# Altium integrated library TI Power Management Power Supply Support.IntLib: 88 symbols (part 1 of 4)
Pins are listed as number, name and electrical type; pins without a type are passive.

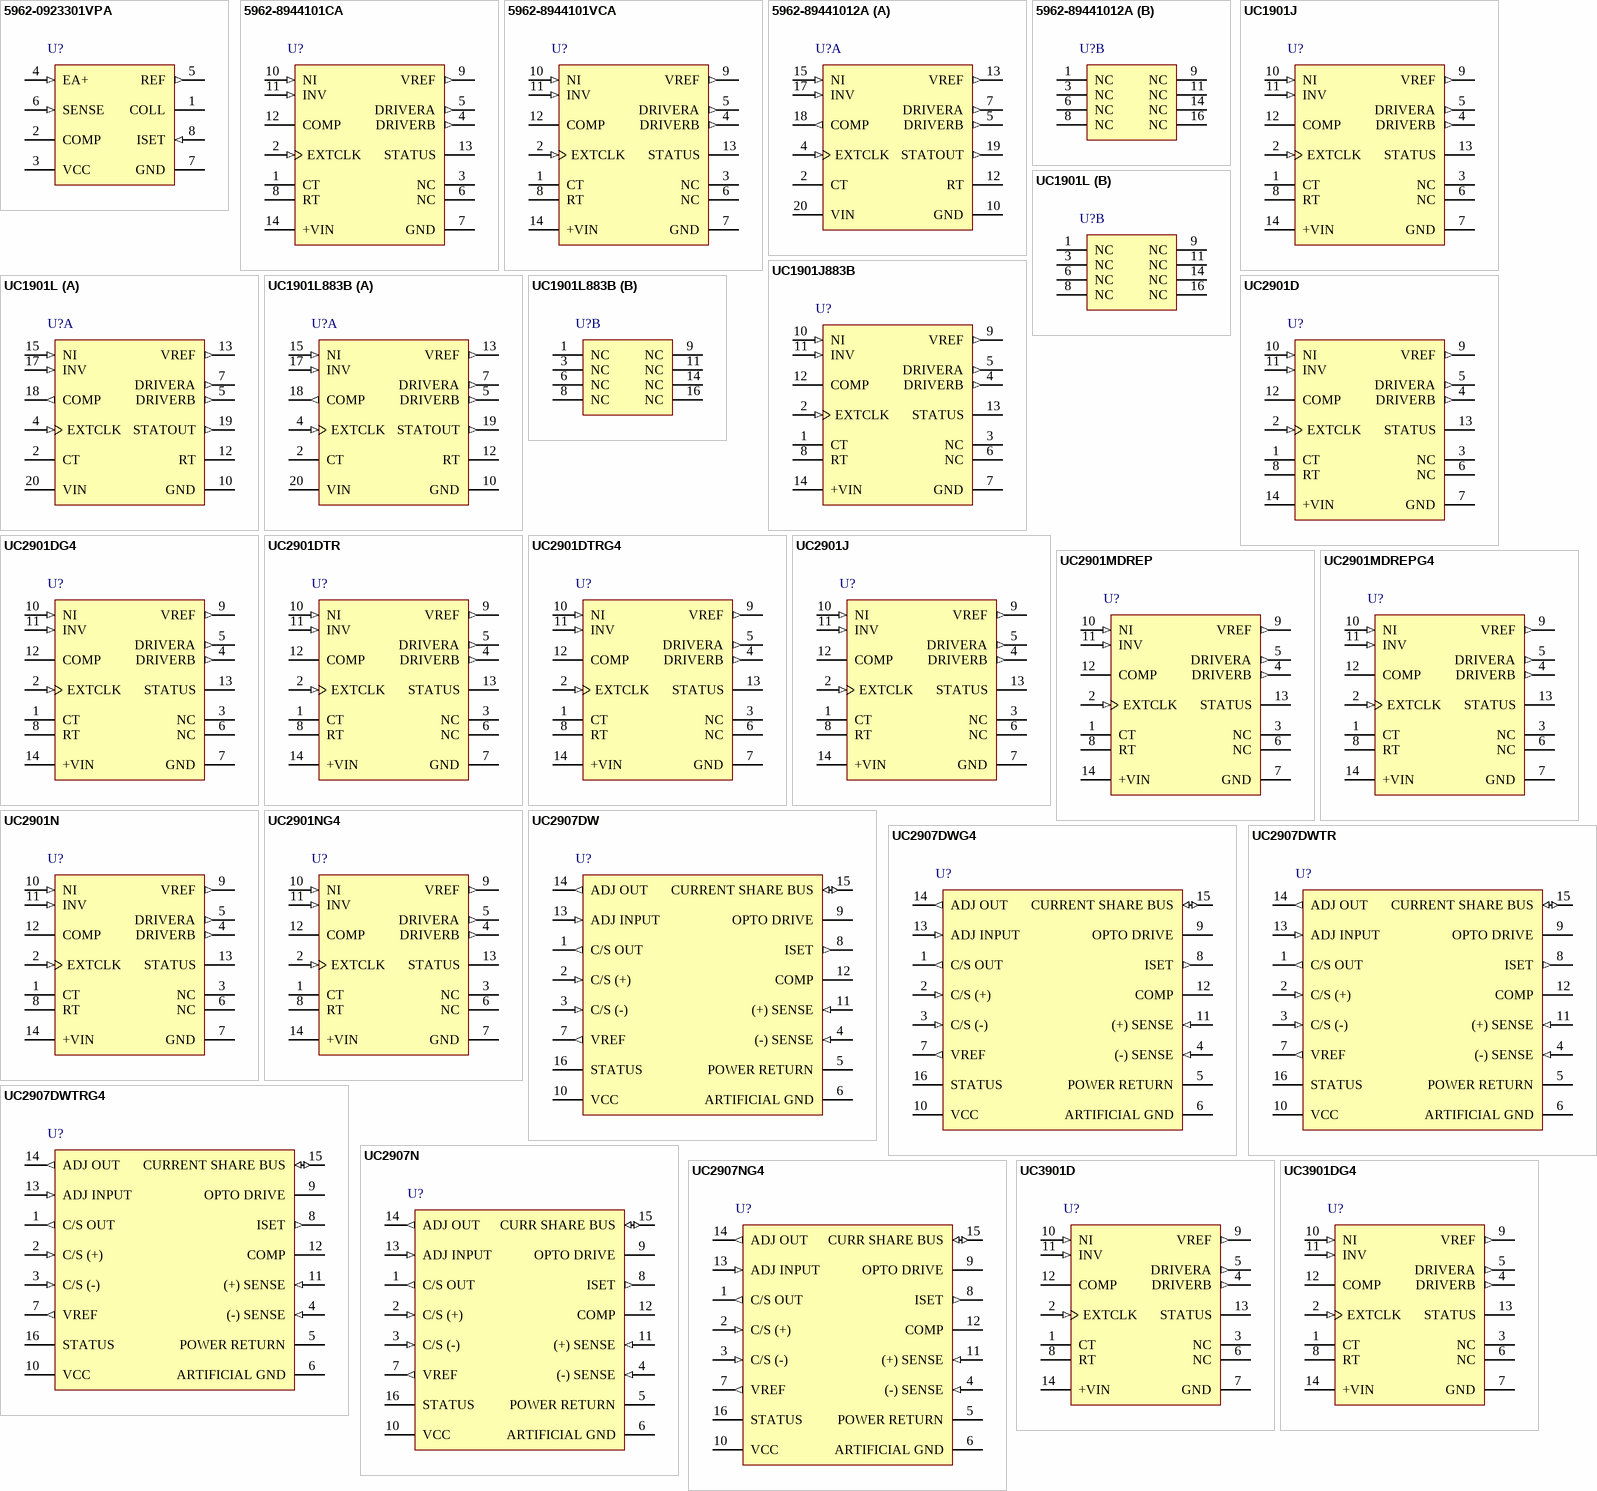
[diagram p0: symbols 5962-0923301VPA to UC3901DG4]

## 5962-0923301VPA
designator U?
Precision Analog Controller, 2.4 to 24 V, -55 to 125 degC, 8-pin CDIP (JG); Manufacturer: Texas Instruments; PartNumber: 5962-0923301VPA; On Board Reference: 1.3; Operating Supply Current(mA): 0.5; Operating Supply(Max)(V): 24; Operating Supply(Min)(V): 2.4; Output Current(A): 0.1; Rating: Space; Vref tol(%): 0.8; DatasheetVersion: SLUS951A; PackageVersion: revC, Aug-1996; PackageReference: JG8; PackageDescription: 8-Pin Ceramic Dual-In-Line Package, Row Spacing 7.62 mm, Pitch 2.54 mm; Supplier 1: Mouser; Supplier Part Number 1: 595-5962-0923301VPA; Reference Voltage(V): 1.3; Mounting Technology: Through Hole; ComponentLink1Description: Datasheet; ComponentLink1URL: http://www.ti.com/general/docs/lit/getliterature.tsp?genericPartNumber=UC19432-SP&fileType=pdf
footprint JG8 (DIP, 8-Leads, Row Spacing 7.62mm, Pitch 2.54mm, Body 9.6x6.7mm)
pins: 1 COLL (oc) "The collector of the output transistor with a maximum voltage of 24 V. This pin is the output of the transconducance amplifier. The overall open loop voltage gain of the transconductance amplifier is gm x RL, where gm is (See Datasheet)", 2 COMP "The output of the error amplifier and the input to the transconductance amplifier. This pin is available to compensate the high frequency gain of the error amplifier. It is internally voltage limited to approximately 2 V.", 3 VCC (power) "The power connection for the device. The minimum to maximum operating voltage is 2.4 V to 24 V. The quiescent current is typically 0.5 mA.", 4 EA+ (in) "The non-inverting input to the error amplifier.", 5 REF (out) "The output of the trimmed precision reference. It can source or sink 10 uA and still maintain less than +/-1% output variation.", 6 SENSE (in) "The inverting terminal of the error amplifier used as both the voltage sense input to the error amplifier and its other compensation point. The error amplifier uses the SENSE input to compare against the 1.3-V on-chip (See Datasheet)", 7 GND (power) "The reference and power ground for the device. The power ground of the output ransistor is isolated on the chip from the substrate ground used to bias the remainder of the device.", 8 ISET (in) "The current set pin for the transconductance amplifier. The transconductance will be -140 mS as specified in the electrical table if this pin is grounded. If a resistance, RL, is added to the ISET pin, the resulting new (See Datasheet)"

## 5962-8944101CA
designator U?
Isolated Feedback Generator, 4.5 to 40 V, -55 to 125 degC, 14-pin CDIP (J); Manufacturer: Texas Instruments; PartNumber: 5962-8944101CA; On Board Oscillator: Useable to 5 MHz; On Board Reference: Yes; Operating Supply Current(mA): 5; Operating Supply(Max)(V): 40; Operating Supply(Min)(V): 4.5; Output Current(A): 0.035; Rating: Military; Reference Voltage(V): 1.5; UVLO: TRUE; Vref tol(%): 2; DatasheetVersion: SLUS279A; PackageVersion: revF, Mar-2003; PackageReference: J14; PackageDescription: 14-Pin Ceramic Dual-In-Line Package, Row Spacing 7.62 mm, Pitch 2.54 mm; Mounting Technology: Through Hole; ComponentLink1Description: Datasheet; ComponentLink1URL: http://www.ti.com/general/docs/lit/getliterature.tsp?genericPartNumber=UC1901&fileType=pdf
footprint J14 (DIP, 14-Leads, Row Spacing 7.62mm, Pitch 2.54mm, Body 19.9x6.9mm)
pins: 1 CT, 2 EXTCLK (in), 3 NC, 4 DRIVERB (out), 5 DRIVERA (out), 6 NC, 7 GND (power), 8 RT, 9 VREF (out), 10 NI (in), 11 INV (in), 12 COMP, 13 STATUS (oc), 14 +VIN (power)

## 5962-8944101VCA
designator U?
Isolated Feedback Generator, -55 to 125 degC, 14-pin CDIP (J); Manufacturer: Texas Instruments; PartNumber: 5962-8944101VCA; Rating: Space; DatasheetVersion: SLUS279A; PackageVersion: revF, Mar-2003; PackageReference: J14; PackageDescription: 14-Pin Ceramic Dual-In-Line Package, Row Spacing 7.62 mm, Pitch 2.54 mm; Mounting Technology: Through Hole; ComponentLink1Description: Datasheet; ComponentLink1URL: http://www.ti.com/general/docs/lit/getliterature.tsp?genericPartNumber=UC1901-SP&fileType=pdf
footprint J14 (DIP, 14-Leads, Row Spacing 7.62mm, Pitch 2.54mm, Body 19.9x6.9mm)
pins: 1 CT, 2 EXTCLK (in), 3 NC, 4 DRIVERB (out), 5 DRIVERA (out), 6 NC, 7 GND (power), 8 RT, 9 VREF (out), 10 NI (in), 11 INV (in), 12 COMP, 13 STATUS (oc), 14 +VIN (power)

## 5962-89441012A
designator U?
Isolated Feedback Generator, 4.5 to 40 V, -55 to 125 degC, 20-pin LCCC (FK); Manufacturer: Texas Instruments; PartNumber: 5962-89441012A; On Board Oscillator: Useable to 5 MHz; On Board Reference: Yes; Operating Supply Current(mA): 5; Operating Supply(Max)(V): 40; Operating Supply(Min)(V): 4.5; Output Current(A): 0.035; Rating: Military; Reference Voltage(V): 1.5; UVLO: TRUE; Vref tol(%): 2; DatasheetVersion: SLUS279A; PackageVersion: revD, Jan-2011; PackageReference: FK20; PackageDescription: 20-Pin Leadless Ceramic Chip Carrier, 1.27 mm Pitch; Mounting Technology: Surface Mount; Code_JEDEC: MS-004; ComponentLink1Description: Datasheet; ComponentLink1URL: http://www.ti.com/general/docs/lit/getliterature.tsp?genericPartNumber=UC1901&fileType=pdf
footprint FK20_N (Leadless Chip Carrier, 20-Leads, Body 8.9x8.9mm, Pitch 1.27mm, IPC Medium Density)
footprint FK20_L (Leadless Chip Carrier, 20-Leads, Body 8.9x8.9mm, Pitch 1.27mm, IPC High Density)
footprint FK20_M (Leadless Chip Carrier, 20-Leads, Body 8.9x8.9mm, Pitch 1.27mm, IPC Low Density)
part A pins: 2 CT, 4 EXTCLK (in), 5 DRIVERB (out), 7 DRIVERA (out), 10 GND (power), 12 RT, 13 VREF (out), 15 NI (in), 17 INV (in), 18 COMP (out), 19 STATOUT (out), 20 VIN (power)
part B pins: 1 NC, 3 NC, 6 NC, 8 NC, 9 NC, 11 NC, 14 NC, 16 NC

## UC1901J
designator U?
Isolated Feedback Generator, 4.5 to 40 V, -55 to 125 degC, 14-pin CDIP (J); Manufacturer: Texas Instruments; PartNumber: UC1901J; On Board Oscillator: Useable to 5 MHz; On Board Reference: Yes; Operating Supply Current(mA): 5; Operating Supply(Max)(V): 40; Operating Supply(Min)(V): 4.5; Output Current(A): 0.035; Rating: Military; Reference Voltage(V): 1.5; UVLO: TRUE; Vref tol(%): 2; DatasheetVersion: SLUS279A; PackageVersion: revF, Mar-2003; PackageReference: J14; PackageDescription: 14-Pin Ceramic Dual-In-Line Package, Row Spacing 7.62 mm, Pitch 2.54 mm; Mounting Technology: Through Hole; ComponentLink1Description: Datasheet; ComponentLink1URL: http://www.ti.com/general/docs/lit/getliterature.tsp?genericPartNumber=UC1901&fileType=pdf
footprint J14 (DIP, 14-Leads, Row Spacing 7.62mm, Pitch 2.54mm, Body 19.9x6.9mm)
pins: 1 CT, 2 EXTCLK (in), 3 NC, 4 DRIVERB (out), 5 DRIVERA (out), 6 NC, 7 GND (power), 8 RT, 9 VREF (out), 10 NI (in), 11 INV (in), 12 COMP, 13 STATUS (oc), 14 +VIN (power)

## UC1901J883B
designator U?
Isolated Feedback Generator, 4.5 to 40 V, -55 to 125 degC, 14-pin CDIP (J); Manufacturer: Texas Instruments; PartNumber: UC1901J883B; On Board Oscillator: Useable to 5 MHz; On Board Reference: Yes; Operating Supply Current(mA): 5; Operating Supply(Max)(V): 40; Operating Supply(Min)(V): 4.5; Output Current(A): 0.035; Rating: Military; Reference Voltage(V): 1.5; UVLO: TRUE; Vref tol(%): 2; DatasheetVersion: SLUS279A; PackageVersion: revF, Mar-2003; PackageReference: J14; PackageDescription: 14-Pin Ceramic Dual-In-Line Package, Row Spacing 7.62 mm, Pitch 2.54 mm; Mounting Technology: Through Hole; ComponentLink1Description: Datasheet; ComponentLink1URL: http://www.ti.com/general/docs/lit/getliterature.tsp?genericPartNumber=UC1901&fileType=pdf
footprint J14 (DIP, 14-Leads, Row Spacing 7.62mm, Pitch 2.54mm, Body 19.9x6.9mm)
pins: 1 CT, 2 EXTCLK (in), 3 NC, 4 DRIVERB (out), 5 DRIVERA (out), 6 NC, 7 GND (power), 8 RT, 9 VREF (out), 10 NI (in), 11 INV (in), 12 COMP, 13 STATUS (oc), 14 +VIN (power)

## UC1901L
designator U?
Isolated Feedback Generator, 4.5 to 40 V, -55 to 125 degC, 20-pin LCCC (FK); Manufacturer: Texas Instruments; PartNumber: UC1901L; On Board Oscillator: Useable to 5 MHz; On Board Reference: Yes; Operating Supply Current(mA): 5; Operating Supply(Max)(V): 40; Operating Supply(Min)(V): 4.5; Output Current(A): 0.035; Rating: Military; Reference Voltage(V): 1.5; UVLO: TRUE; Vref tol(%): 2; DatasheetVersion: SLUS279A; PackageVersion: revD, Jan-2011; PackageReference: FK20; PackageDescription: 20-Pin Leadless Ceramic Chip Carrier, 1.27 mm Pitch; Mounting Technology: Surface Mount; Code_JEDEC: MS-004; ComponentLink1Description: Datasheet; ComponentLink1URL: http://www.ti.com/general/docs/lit/getliterature.tsp?genericPartNumber=UC1901&fileType=pdf
footprint FK20_N (Leadless Chip Carrier, 20-Leads, Body 8.9x8.9mm, Pitch 1.27mm, IPC Medium Density)
footprint FK20_L (Leadless Chip Carrier, 20-Leads, Body 8.9x8.9mm, Pitch 1.27mm, IPC High Density)
footprint FK20_M (Leadless Chip Carrier, 20-Leads, Body 8.9x8.9mm, Pitch 1.27mm, IPC Low Density)
part A pins: 2 CT, 4 EXTCLK (in), 5 DRIVERB (out), 7 DRIVERA (out), 10 GND (power), 12 RT, 13 VREF (out), 15 NI (in), 17 INV (in), 18 COMP (out), 19 STATOUT (out), 20 VIN (power)
part B pins: 1 NC, 3 NC, 6 NC, 8 NC, 9 NC, 11 NC, 14 NC, 16 NC

## UC1901L883B
designator U?
Isolated Feedback Generator, 4.5 to 40 V, -55 to 125 degC, 20-pin LCCC (FK); Manufacturer: Texas Instruments; PartNumber: UC1901L883B; On Board Oscillator: Useable to 5 MHz; On Board Reference: Yes; Operating Supply Current(mA): 5; Operating Supply(Max)(V): 40; Operating Supply(Min)(V): 4.5; Output Current(A): 0.035; Rating: Military; Reference Voltage(V): 1.5; UVLO: TRUE; Vref tol(%): 2; DatasheetVersion: SLUS279A; PackageVersion: revD, Jan-2011; PackageReference: FK20; PackageDescription: 20-Pin Leadless Ceramic Chip Carrier, 1.27 mm Pitch; Mounting Technology: Surface Mount; Code_JEDEC: MS-004; ComponentLink1Description: Datasheet; ComponentLink1URL: http://www.ti.com/general/docs/lit/getliterature.tsp?genericPartNumber=UC1901&fileType=pdf
footprint FK20_N (Leadless Chip Carrier, 20-Leads, Body 8.9x8.9mm, Pitch 1.27mm, IPC Medium Density)
footprint FK20_L (Leadless Chip Carrier, 20-Leads, Body 8.9x8.9mm, Pitch 1.27mm, IPC High Density)
footprint FK20_M (Leadless Chip Carrier, 20-Leads, Body 8.9x8.9mm, Pitch 1.27mm, IPC Low Density)
part A pins: 2 CT, 4 EXTCLK (in), 5 DRIVERB (out), 7 DRIVERA (out), 10 GND (power), 12 RT, 13 VREF (out), 15 NI (in), 17 INV (in), 18 COMP (out), 19 STATOUT (out), 20 VIN (power)
part B pins: 1 NC, 3 NC, 6 NC, 8 NC, 9 NC, 11 NC, 14 NC, 16 NC

## UC2901D
designator U?
Isolated Feedback Generator, 4.5 to 40 V, -40 to 85 degC, 14-pin SOIC (D), Green (RoHS & no Sb/Br); Manufacturer: Texas Instruments; PartNumber: UC2901D; On Board Oscillator: Useable to 5 MHz; On Board Reference: Yes; Operating Supply Current(mA): 5; Operating Supply(Max)(V): 40; Operating Supply(Min)(V): 4.5; Output Current(A): 0.035; Rating: Military; Reference Voltage(V): 1.5; UVLO: TRUE; Vref tol(%): 2; DatasheetVersion: SLUS279A; PackageVersion: revM, Jun-2011; PackageReference: D14; PackageDescription: 14-Pin Plastic Small Outline Integrated Circuit, 8.7 x 3.9 mm, Pitch 1.27 mm Pitch; Supplier 1: Digi-Key; Supplier Part Number 1: 296-11204-5-ND; Supplier 2: Newark; Supplier Part Number 2: 77C3076; Supplier 3: Mouser; Supplier Part Number 3: 595-UC2901D; Mounting Technology: Surface Mount; Code_JEDEC: MS-012AB; ComponentLink1Description: Datasheet; ComponentLink1URL: http://www.ti.com/general/docs/lit/getliterature.tsp?genericPartNumber=UC2901&fileType=pdf
footprint D14_N (SOIC, 14-Leads, Body 8.7x3.9mm, Pitch 1.27mm, IPC Medium Density)
footprint D14_L (SOIC, 14-Leads, Body 8.7x3.9mm, Pitch 1.27mm, IPC High Density)
footprint D14_M (SOIC, 14-Leads, Body 8.7x3.9mm, Pitch 1.27mm, IPC Low Density)
pins: 1 CT, 2 EXTCLK (in), 3 NC, 4 DRIVERB (out), 5 DRIVERA (out), 6 NC, 7 GND (power), 8 RT, 9 VREF (out), 10 NI (in), 11 INV (in), 12 COMP, 13 STATUS (oc), 14 +VIN (power)

## UC2901DG4
designator U?
Isolated Feedback Generator, 4.5 to 40 V, -40 to 85 degC, 14-pin SOIC (D), Green (RoHS & no Sb/Br); Manufacturer: Texas Instruments; PartNumber: UC2901DG4; On Board Oscillator: Useable to 5 MHz; On Board Reference: Yes; Operating Supply Current(mA): 5; Operating Supply(Max)(V): 40; Operating Supply(Min)(V): 4.5; Output Current(A): 0.035; Rating: Military; Reference Voltage(V): 1.5; UVLO: TRUE; Vref tol(%): 2; DatasheetVersion: SLUS279A; PackageVersion: revM, Jun-2011; PackageReference: D14; PackageDescription: 14-Pin Plastic Small Outline Integrated Circuit, 8.7 x 3.9 mm, Pitch 1.27 mm Pitch; Supplier 1: Digi-Key; Supplier Part Number 1: UC2901DG4-ND; Supplier 2: Newark; Supplier Part Number 2: 54K2296; Supplier 3: Mouser; Supplier Part Number 3: 595-UC2901DG4; Mounting Technology: Surface Mount; Code_JEDEC: MS-012AB; ComponentLink1Description: Datasheet; ComponentLink1URL: http://www.ti.com/general/docs/lit/getliterature.tsp?genericPartNumber=UC2901&fileType=pdf
footprint D14_N (SOIC, 14-Leads, Body 8.7x3.9mm, Pitch 1.27mm, IPC Medium Density)
footprint D14_L (SOIC, 14-Leads, Body 8.7x3.9mm, Pitch 1.27mm, IPC High Density)
footprint D14_M (SOIC, 14-Leads, Body 8.7x3.9mm, Pitch 1.27mm, IPC Low Density)
pins: 1 CT, 2 EXTCLK (in), 3 NC, 4 DRIVERB (out), 5 DRIVERA (out), 6 NC, 7 GND (power), 8 RT, 9 VREF (out), 10 NI (in), 11 INV (in), 12 COMP, 13 STATUS (oc), 14 +VIN (power)

## UC2901DTR
designator U?
Isolated Feedback Generator, 4.5 to 40 V, -40 to 85 degC, 14-pin SOIC (D), Green (RoHS & no Sb/Br); Manufacturer: Texas Instruments; PartNumber: UC2901DTR; On Board Oscillator: Useable to 5 MHz; On Board Reference: Yes; Operating Supply Current(mA): 5; Operating Supply(Max)(V): 40; Operating Supply(Min)(V): 4.5; Output Current(A): 0.035; Rating: Military; Reference Voltage(V): 1.5; UVLO: TRUE; Vref tol(%): 2; DatasheetVersion: SLUS279A; PackageVersion: revM, Jun-2011; PackageReference: D14; PackageDescription: 14-Pin Plastic Small Outline Integrated Circuit, 8.7 x 3.9 mm, Pitch 1.27 mm Pitch; Supplier 1: Digi-Key; Supplier Part Number 1: UC2901DTR-ND; Supplier 2: Newark; Supplier Part Number 2: 77C3077; Supplier 3: Mouser; Supplier Part Number 3: 595-UC2901DTR; Mounting Technology: Surface Mount; Code_JEDEC: MS-012AB; ComponentLink1Description: Datasheet; ComponentLink1URL: http://www.ti.com/general/docs/lit/getliterature.tsp?genericPartNumber=UC2901&fileType=pdf
footprint D14_N (SOIC, 14-Leads, Body 8.7x3.9mm, Pitch 1.27mm, IPC Medium Density)
footprint D14_L (SOIC, 14-Leads, Body 8.7x3.9mm, Pitch 1.27mm, IPC High Density)
footprint D14_M (SOIC, 14-Leads, Body 8.7x3.9mm, Pitch 1.27mm, IPC Low Density)
pins: 1 CT, 2 EXTCLK (in), 3 NC, 4 DRIVERB (out), 5 DRIVERA (out), 6 NC, 7 GND (power), 8 RT, 9 VREF (out), 10 NI (in), 11 INV (in), 12 COMP, 13 STATUS (oc), 14 +VIN (power)

## UC2901DTRG4
designator U?
Isolated Feedback Generator, 4.5 to 40 V, -40 to 85 degC, 14-pin SOIC (D), Green (RoHS & no Sb/Br); Manufacturer: Texas Instruments; PartNumber: UC2901DTRG4; On Board Oscillator: Useable to 5 MHz; On Board Reference: Yes; Operating Supply Current(mA): 5; Operating Supply(Max)(V): 40; Operating Supply(Min)(V): 4.5; Output Current(A): 0.035; Rating: Military; Reference Voltage(V): 1.5; UVLO: TRUE; Vref tol(%): 2; DatasheetVersion: SLUS279A; PackageVersion: revM, Jun-2011; PackageReference: D14; PackageDescription: 14-Pin Plastic Small Outline Integrated Circuit, 8.7 x 3.9 mm, Pitch 1.27 mm Pitch; Supplier 1: Digi-Key; Supplier Part Number 1: UC2901DTRG4-ND; Supplier 2: Newark; Supplier Part Number 2: 58K7112; Supplier 3: Mouser; Supplier Part Number 3: 595-UC2901DTRG4; Mounting Technology: Surface Mount; Code_JEDEC: MS-012AB; ComponentLink1Description: Datasheet; ComponentLink1URL: http://www.ti.com/general/docs/lit/getliterature.tsp?genericPartNumber=UC2901&fileType=pdf
footprint D14_N (SOIC, 14-Leads, Body 8.7x3.9mm, Pitch 1.27mm, IPC Medium Density)
footprint D14_L (SOIC, 14-Leads, Body 8.7x3.9mm, Pitch 1.27mm, IPC High Density)
footprint D14_M (SOIC, 14-Leads, Body 8.7x3.9mm, Pitch 1.27mm, IPC Low Density)
pins: 1 CT, 2 EXTCLK (in), 3 NC, 4 DRIVERB (out), 5 DRIVERA (out), 6 NC, 7 GND (power), 8 RT, 9 VREF (out), 10 NI (in), 11 INV (in), 12 COMP, 13 STATUS (oc), 14 +VIN (power)

## UC2901J
designator U?
Isolated Feedback Generator, 4.5 to 40 V, -40 to 85 degC, 14-pin CDIP (J); Manufacturer: Texas Instruments; PartNumber: UC2901J; On Board Oscillator: Useable to 5 MHz; On Board Reference: Yes; Operating Supply Current(mA): 5; Operating Supply(Max)(V): 40; Operating Supply(Min)(V): 4.5; Output Current(A): 0.035; Rating: Military; Reference Voltage(V): 1.5; UVLO: TRUE; Vref tol(%): 2; DatasheetVersion: SLUS279A; PackageVersion: revF, Mar-2003; PackageReference: J14; PackageDescription: 14-Pin Ceramic Dual-In-Line Package, Row Spacing 7.62 mm, Pitch 2.54 mm; Mounting Technology: Through Hole; ComponentLink1Description: Datasheet; ComponentLink1URL: http://www.ti.com/general/docs/lit/getliterature.tsp?genericPartNumber=UC2901&fileType=pdf
footprint J14 (DIP, 14-Leads, Row Spacing 7.62mm, Pitch 2.54mm, Body 19.9x6.9mm)
pins: 1 CT, 2 EXTCLK (in), 3 NC, 4 DRIVERB (out), 5 DRIVERA (out), 6 NC, 7 GND (power), 8 RT, 9 VREF (out), 10 NI (in), 11 INV (in), 12 COMP, 13 STATUS (oc), 14 +VIN (power)

## UC2901MDREP
designator U?
Enhanced Product Isolated Feedback Generator, 4.5 to 40 V, -55 to 125 degC, 14-pin SOIC (D), Green (RoHS & no Sb/Br); Manufacturer: Texas Instruments; PartNumber: UC2901MDREP; On Board Oscillator: Useable to 5 MHz; On Board Reference: Yes; Operating Supply Current(mA): 5; Operating Supply(Max)(V): 40; Operating Supply(Min)(V): 4.5; Output Current(A): 0.015; Rating: HiRel Enhanced Product; Reference Voltage(V): 1.5; Vref tol(%): 2; DatasheetVersion: SLUS709A; PackageVersion: revM, Jun-2011; PackageReference: D14; PackageDescription: 14-Pin Plastic Small Outline Integrated Circuit, 8.7 x 3.9 mm, Pitch 1.27 mm Pitch; Supplier 1: Digi-Key; Supplier Part Number 1: 296-22532-2-ND; Supplier 2: Digi-Key; Supplier Part Number 2: 296-22532-1-ND; Supplier 3: Digi-Key; Supplier Part Number 3: 296-22532-6-ND; Supplier 4: Newark; Supplier Part Number 4: 46M1397; Supplier 5: Mouser; Supplier Part Number 5: 595-UC2901MDREP; Mounting Technology: Surface Mount; Code_JEDEC: MS-012AB; ComponentLink1Description: Datasheet; ComponentLink1URL: http://www.ti.com/general/docs/lit/getliterature.tsp?genericPartNumber=UC2901-EP&fileType=pdf
footprint D14_N (SOIC, 14-Leads, Body 8.7x3.9mm, Pitch 1.27mm, IPC Medium Density)
footprint D14_L (SOIC, 14-Leads, Body 8.7x3.9mm, Pitch 1.27mm, IPC High Density)
footprint D14_M (SOIC, 14-Leads, Body 8.7x3.9mm, Pitch 1.27mm, IPC Low Density)
pins: 1 CT, 2 EXTCLK (in), 3 NC, 4 DRIVERB (out), 5 DRIVERA (out), 6 NC, 7 GND (power), 8 RT, 9 VREF (out), 10 NI (in), 11 INV (in), 12 COMP, 13 STATUS (oc), 14 +VIN (power)

## UC2901MDREPG4
designator U?
Enhanced Product Isolated Feedback Generator, 4.5 to 40 V, -55 to 125 degC, 14-pin SOIC (D), Green (RoHS & no Sb/Br); Manufacturer: Texas Instruments; PartNumber: UC2901MDREPG4; On Board Oscillator: Useable to 5 MHz; On Board Reference: Yes; Operating Supply Current(mA): 5; Operating Supply(Max)(V): 40; Operating Supply(Min)(V): 4.5; Output Current(A): 0.015; Rating: HiRel Enhanced Product; Reference Voltage(V): 1.5; Vref tol(%): 2; DatasheetVersion: SLUS709A; PackageVersion: revM, Jun-2011; PackageReference: D14; PackageDescription: 14-Pin Plastic Small Outline Integrated Circuit, 8.7 x 3.9 mm, Pitch 1.27 mm Pitch; Supplier 1: Digi-Key; Supplier Part Number 1: UC2901MDREPG4-ND; Supplier 2: Mouser; Supplier Part Number 2: 595-UC2901MDREPG4; Mounting Technology: Surface Mount; Code_JEDEC: MS-012AB; ComponentLink1Description: Datasheet; ComponentLink1URL: http://www.ti.com/general/docs/lit/getliterature.tsp?genericPartNumber=UC2901-EP&fileType=pdf
footprint D14_N (SOIC, 14-Leads, Body 8.7x3.9mm, Pitch 1.27mm, IPC Medium Density)
footprint D14_L (SOIC, 14-Leads, Body 8.7x3.9mm, Pitch 1.27mm, IPC High Density)
footprint D14_M (SOIC, 14-Leads, Body 8.7x3.9mm, Pitch 1.27mm, IPC Low Density)
pins: 1 CT, 2 EXTCLK (in), 3 NC, 4 DRIVERB (out), 5 DRIVERA (out), 6 NC, 7 GND (power), 8 RT, 9 VREF (out), 10 NI (in), 11 INV (in), 12 COMP, 13 STATUS (oc), 14 +VIN (power)

## UC2901N
designator U?
Isolated Feedback Generator, 4.5 to 40 V, -40 to 85 degC, 14-pin PDIP (N), Green (RoHS & no Sb/Br); Manufacturer: Texas Instruments; PartNumber: UC2901N; On Board Oscillator: Useable to 5 MHz; On Board Reference: Yes; Operating Supply Current(mA): 5; Operating Supply(Max)(V): 40; Operating Supply(Min)(V): 4.5; Output Current(A): 0.035; Rating: Military; Reference Voltage(V): 1.5; UVLO: TRUE; Vref tol(%): 2; DatasheetVersion: SLUS279A; PackageVersion: revE, Dec-2002; PackageReference: N14; PackageDescription: 14-Pin Plastic Dual-In-Line Package, Row Spacing 7.62 mm, Pitch 2.54 mm; Supplier 1: Digi-Key; Supplier Part Number 1: 296-11205-5-ND; Supplier 2: Newark; Supplier Part Number 2: 77C3080; Supplier 3: Mouser; Supplier Part Number 3: 595-UC2901N; Mounting Technology: Through Hole; Code_JEDEC: MS-001; ComponentLink1Description: Datasheet; ComponentLink1URL: http://www.ti.com/general/docs/lit/getliterature.tsp?genericPartNumber=UC2901&fileType=pdf
footprint N14 (DIP, 14-Leads, Row Spacing 7.62mm, Pitch 2.54mm, Body 19.3x6.4mm)
pins: 1 CT, 2 EXTCLK (in), 3 NC, 4 DRIVERB (out), 5 DRIVERA (out), 6 NC, 7 GND (power), 8 RT, 9 VREF (out), 10 NI (in), 11 INV (in), 12 COMP, 13 STATUS (oc), 14 +VIN (power)

## UC2901NG4
designator U?
Isolated Feedback Generator, 4.5 to 40 V, -40 to 85 degC, 14-pin PDIP (N), Green (RoHS & no Sb/Br); Manufacturer: Texas Instruments; PartNumber: UC2901NG4; On Board Oscillator: Useable to 5 MHz; On Board Reference: Yes; Operating Supply Current(mA): 5; Operating Supply(Max)(V): 40; Operating Supply(Min)(V): 4.5; Output Current(A): 0.035; Rating: Military; Reference Voltage(V): 1.5; UVLO: TRUE; Vref tol(%): 2; DatasheetVersion: SLUS279A; PackageVersion: revE, Dec-2002; PackageReference: N14; PackageDescription: 14-Pin Plastic Dual-In-Line Package, Row Spacing 7.62 mm, Pitch 2.54 mm; Supplier 1: Digi-Key; Supplier Part Number 1: UC2901NG4-ND; Supplier 2: Newark; Supplier Part Number 2: 70K5989; Supplier 3: Mouser; Supplier Part Number 3: 595-UC2901NG4; Mounting Technology: Through Hole; Code_JEDEC: MS-001; ComponentLink1Description: Datasheet; ComponentLink1URL: http://www.ti.com/general/docs/lit/getliterature.tsp?genericPartNumber=UC2901&fileType=pdf
footprint N14 (DIP, 14-Leads, Row Spacing 7.62mm, Pitch 2.54mm, Body 19.3x6.4mm)
pins: 1 CT, 2 EXTCLK (in), 3 NC, 4 DRIVERB (out), 5 DRIVERA (out), 6 NC, 7 GND (power), 8 RT, 9 VREF (out), 10 NI (in), 11 INV (in), 12 COMP, 13 STATUS (oc), 14 +VIN (power)

## UC2907DW
designator U?
Load Share Controller with on Board Ref, 4.5 to 35 V Supply, -40 to 85 degC, 16-pin SOIC (DW), Green (RoHS & no Sb/Br); Manufacturer: Texas Instruments; PartNumber: UC2907DW; On Board Reference: TRUE; Operating Supply Current(mA): 6; Operating Supply(Max)(V): 35; Operating Supply(Min)(V): 4.5; Rating: Military; Share Bus: Single-Ended; Startup Current(uA): 3000; DatasheetVersion: SLUS165C; PackageVersion: revG, Jan-2011; PackageReference: DW16; PackageDescription: 16-Pin Small Outline Integrated Circuit, 10.3 x 7.5 mm, Pitch 1.27 mm Pitch; Supplier 1: Digi-Key; Supplier Part Number 1: 296-2499-5-ND; Supplier 2: Newark; Supplier Part Number 2: 77C3098; Supplier 3: Mouser; Supplier Part Number 3: 595-UC2907DW; Eco-Plan: Green (RoHS & no Sb/Br); SubFamily: Load Share; Mounting Technology: Surface Mount; Code_JEDEC: MS-013-AA; ComponentLink1Description: Datasheet; ComponentLink1URL: http://www.ti.com/general/docs/lit/getliterature.tsp?genericPartNumber=UC2907&fileType=pdf
footprint DW16_N (SOIC, 16-Leads, Body 10.3x7.5mm, Pitch 1.27mm, IPC Medium Density)
footprint DW16_L (SOIC, 16-Leads, Body 10.3x7.5mm, Pitch 1.27mm, IPC High Density)
footprint DW16_M (SOIC, 16-Leads, Body 10.3x7.5mm, Pitch 1.27mm, IPC Low Density)
pins: 1 C/S OUT (out), 2 C/S (+) (in), 3 C/S (-) (in), 4 (-) SENSE (in), 5 POWER RETURN, 6 ARTIFICIAL GND (power), 7 VREF (out), 8 ISET (out), 9 OPTO DRIVE (oc), 10 VCC (power), 11 (+) SENSE (in), 12 COMP, 13 ADJ INPUT (in), 14 ADJ OUT (out), 15 CURRENT SHARE BUS (io), 16 STATUS (oc)

## UC2907DWG4
designator U?
Load Share Controller with on Board Ref, 4.5 to 35 V Supply, -40 to 85 degC, 16-pin SOIC (DW), Green (RoHS & no Sb/Br); Manufacturer: Texas Instruments; PartNumber: UC2907DWG4; On Board Reference: TRUE; Operating Supply Current(mA): 6; Operating Supply(Max)(V): 35; Operating Supply(Min)(V): 4.5; Rating: Military; Share Bus: Single-Ended; Startup Current(uA): 3000; DatasheetVersion: SLUS165C; PackageVersion: revG, Jan-2011; PackageReference: DW16; PackageDescription: 16-Pin Small Outline Integrated Circuit, 10.3 x 7.5 mm, Pitch 1.27 mm Pitch; Supplier 1: Digi-Key; Supplier Part Number 1: UC2907DWG4-ND; Supplier 2: Newark; Supplier Part Number 2: 24K6365; Supplier 3: Mouser; Supplier Part Number 3: 595-UC2907DWG4; Eco-Plan: Green (RoHS & no Sb/Br); SubFamily: Load Share; Mounting Technology: Surface Mount; Code_JEDEC: MS-013-AA; ComponentLink1Description: Datasheet; ComponentLink1URL: http://www.ti.com/general/docs/lit/getliterature.tsp?genericPartNumber=UC2907&fileType=pdf
footprint DW16_N (SOIC, 16-Leads, Body 10.3x7.5mm, Pitch 1.27mm, IPC Medium Density)
footprint DW16_L (SOIC, 16-Leads, Body 10.3x7.5mm, Pitch 1.27mm, IPC High Density)
footprint DW16_M (SOIC, 16-Leads, Body 10.3x7.5mm, Pitch 1.27mm, IPC Low Density)
pins: 1 C/S OUT (out), 2 C/S (+) (in), 3 C/S (-) (in), 4 (-) SENSE (in), 5 POWER RETURN, 6 ARTIFICIAL GND (power), 7 VREF (out), 8 ISET (out), 9 OPTO DRIVE (oc), 10 VCC (power), 11 (+) SENSE (in), 12 COMP, 13 ADJ INPUT (in), 14 ADJ OUT (out), 15 CURRENT SHARE BUS (io), 16 STATUS (oc)

## UC2907DWTR
designator U?
Load Share Controller with on Board Ref, 4.5 to 35 V Supply, -40 to 85 degC, 16-pin SOIC (DW), Green (RoHS & no Sb/Br); Manufacturer: Texas Instruments; PartNumber: UC2907DWTR; On Board Reference: TRUE; Operating Supply Current(mA): 6; Operating Supply(Max)(V): 35; Operating Supply(Min)(V): 4.5; Rating: Military; Share Bus: Single-Ended; Startup Current(uA): 3000; DatasheetVersion: SLUS165C; PackageVersion: revG, Jan-2011; PackageReference: DW16; PackageDescription: 16-Pin Small Outline Integrated Circuit, 10.3 x 7.5 mm, Pitch 1.27 mm Pitch; Supplier 1: Digi-Key; Supplier Part Number 1: UC2907DWTR-ND; Supplier 2: Newark; Supplier Part Number 2: 77C3099; Supplier 3: Mouser; Supplier Part Number 3: 595-UC2907DWTR; Eco-Plan: Green (RoHS & no Sb/Br); SubFamily: Load Share; Mounting Technology: Surface Mount; Code_JEDEC: MS-013-AA; ComponentLink1Description: Datasheet; ComponentLink1URL: http://www.ti.com/general/docs/lit/getliterature.tsp?genericPartNumber=UC2907&fileType=pdf
footprint DW16_N (SOIC, 16-Leads, Body 10.3x7.5mm, Pitch 1.27mm, IPC Medium Density)
footprint DW16_L (SOIC, 16-Leads, Body 10.3x7.5mm, Pitch 1.27mm, IPC High Density)
footprint DW16_M (SOIC, 16-Leads, Body 10.3x7.5mm, Pitch 1.27mm, IPC Low Density)
pins: 1 C/S OUT (out), 2 C/S (+) (in), 3 C/S (-) (in), 4 (-) SENSE (in), 5 POWER RETURN, 6 ARTIFICIAL GND (power), 7 VREF (out), 8 ISET (out), 9 OPTO DRIVE (oc), 10 VCC (power), 11 (+) SENSE (in), 12 COMP, 13 ADJ INPUT (in), 14 ADJ OUT (out), 15 CURRENT SHARE BUS (io), 16 STATUS (oc)

## UC2907DWTRG4
designator U?
Load Share Controller with on Board Ref, 4.5 to 35 V Supply, -40 to 85 degC, 16-pin SOIC (DW), Green (RoHS & no Sb/Br); Manufacturer: Texas Instruments; PartNumber: UC2907DWTRG4; On Board Reference: TRUE; Operating Supply Current(mA): 6; Operating Supply(Max)(V): 35; Operating Supply(Min)(V): 4.5; Rating: Military; Share Bus: Single-Ended; Startup Current(uA): 3000; DatasheetVersion: SLUS165C; PackageVersion: revG, Jan-2011; PackageReference: DW16; PackageDescription: 16-Pin Small Outline Integrated Circuit, 10.3 x 7.5 mm, Pitch 1.27 mm Pitch; Supplier 1: Digi-Key; Supplier Part Number 1: UC2907DWTRG4-ND; Supplier 2: Newark; Supplier Part Number 2: 63K6707; Supplier 3: Mouser; Supplier Part Number 3: 595-UC2907DWTRG4; Eco-Plan: Green (RoHS & no Sb/Br); SubFamily: Load Share; Mounting Technology: Surface Mount; Code_JEDEC: MS-013-AA; ComponentLink1Description: Datasheet; ComponentLink1URL: http://www.ti.com/general/docs/lit/getliterature.tsp?genericPartNumber=UC2907&fileType=pdf
footprint DW16_N (SOIC, 16-Leads, Body 10.3x7.5mm, Pitch 1.27mm, IPC Medium Density)
footprint DW16_L (SOIC, 16-Leads, Body 10.3x7.5mm, Pitch 1.27mm, IPC High Density)
footprint DW16_M (SOIC, 16-Leads, Body 10.3x7.5mm, Pitch 1.27mm, IPC Low Density)
pins: 1 C/S OUT (out), 2 C/S (+) (in), 3 C/S (-) (in), 4 (-) SENSE (in), 5 POWER RETURN, 6 ARTIFICIAL GND (power), 7 VREF (out), 8 ISET (out), 9 OPTO DRIVE (oc), 10 VCC (power), 11 (+) SENSE (in), 12 COMP, 13 ADJ INPUT (in), 14 ADJ OUT (out), 15 CURRENT SHARE BUS (io), 16 STATUS (oc)

## UC2907N
designator U?
Load Share Controller with on Board Ref, 4.5 to 35 V Supply, -40 to 85 degC, 16-pin PDIP (N), Green (RoHS & no Sb/Br); Manufacturer: Texas Instruments; PartNumber: UC2907N; On Board Reference: TRUE; Operating Supply Current(mA): 6; Operating Supply(Max)(V): 35; Operating Supply(Min)(V): 4.5; Rating: Military; Share Bus: Single-Ended; Startup Current(uA): 3000; DatasheetVersion: SLUS165C; PackageVersion: revE, Dec-2002; PackageReference: N16; PackageDescription: 16-Pin Plastic Dual-In-Line Package, Row Spacing 7.62 mm, Pitch 2.54 mm; Supplier 1: Digi-Key; Supplier Part Number 1: 296-34733-5-ND; Supplier 2: Newark; Supplier Part Number 2: 77C3100; Supplier 3: Mouser; Supplier Part Number 3: 595-UC2907N; Eco-Plan: Green (RoHS & no Sb/Br); SubFamily: Load Share; Mounting Technology: Through Hole; Code_JEDEC: MS-001*; ComponentLink1Description: Datasheet; ComponentLink1URL: http://www.ti.com/general/docs/lit/getliterature.tsp?genericPartNumber=UC2907&fileType=pdf
footprint N16 (DIP, 16-Leads, Row Spacing 7.62mm, Pitch 2.54mm, Body 19.3x6.4mm)
pins: 1 C/S OUT (out), 2 C/S (+) (in), 3 C/S (-) (in), 4 (-) SENSE (in), 5 POWER RETURN, 6 ARTIFICIAL GND (power), 7 VREF (out), 8 ISET (out), 9 OPTO DRIVE (oc), 10 VCC (power), 11 (+) SENSE (in), 12 COMP, 13 ADJ INPUT (in), 14 ADJ OUT (out), 15 CURR SHARE BUS (io), 16 STATUS (oc)

## UC2907NG4
designator U?
Load Share Controller with on Board Ref, 4.5 to 35 V Supply, -40 to 85 degC, 16-pin PDIP (N), Green (RoHS & no Sb/Br); Manufacturer: Texas Instruments; PartNumber: UC2907NG4; On Board Reference: TRUE; Operating Supply Current(mA): 6; Operating Supply(Max)(V): 35; Operating Supply(Min)(V): 4.5; Rating: Military; Share Bus: Single-Ended; Startup Current(uA): 3000; DatasheetVersion: SLUS165C; PackageVersion: revE, Dec-2002; PackageReference: N16; PackageDescription: 16-Pin Plastic Dual-In-Line Package, Row Spacing 7.62 mm, Pitch 2.54 mm; Supplier 1: Digi-Key; Supplier Part Number 1: UC2907NG4-ND; Supplier 2: Newark; Supplier Part Number 2: 58K7114; Supplier 3: Mouser; Supplier Part Number 3: 595-UC2907NG4; Eco-Plan: Green (RoHS & no Sb/Br); SubFamily: Load Share; Mounting Technology: Through Hole; Code_JEDEC: MS-001*; ComponentLink1Description: Datasheet; ComponentLink1URL: http://www.ti.com/general/docs/lit/getliterature.tsp?genericPartNumber=UC2907&fileType=pdf
footprint N16 (DIP, 16-Leads, Row Spacing 7.62mm, Pitch 2.54mm, Body 19.3x6.4mm)
pins: 1 C/S OUT (out), 2 C/S (+) (in), 3 C/S (-) (in), 4 (-) SENSE (in), 5 POWER RETURN, 6 ARTIFICIAL GND (power), 7 VREF (out), 8 ISET (out), 9 OPTO DRIVE (oc), 10 VCC (power), 11 (+) SENSE (in), 12 COMP, 13 ADJ INPUT (in), 14 ADJ OUT (out), 15 CURR SHARE BUS (io), 16 STATUS (oc)

## UC3901D
designator U?
Isolated Feedback Generator, 4.5 to 40 V, 0 to 70 degC, 14-pin SOIC (D), Green (RoHS & no Sb/Br); Manufacturer: Texas Instruments; PartNumber: UC3901D; On Board Oscillator: Useable to 5 MHz; On Board Reference: Yes; Operating Supply Current(mA): 5; Operating Supply(Max)(V): 40; Operating Supply(Min)(V): 4.5; Output Current(A): 0.035; Rating: Catalog; Reference Voltage(V): 1.5; UVLO: TRUE; Vref tol(%): 3; DatasheetVersion: SLUS279A; PackageVersion: revM, Jun-2011; PackageReference: D14; PackageDescription: 14-Pin Plastic Small Outline Integrated Circuit, 8.7 x 3.9 mm, Pitch 1.27 mm Pitch; Supplier 1: Digi-Key; Supplier Part Number 1: 296-11338-5-ND; Supplier 2: Newark; Supplier Part Number 2: 77C3450; Supplier 3: Mouser; Supplier Part Number 3: 595-UC3901D; Mounting Technology: Surface Mount; Code_JEDEC: MS-012AB; ComponentLink1Description: Datasheet; ComponentLink1URL: http://www.ti.com/general/docs/lit/getliterature.tsp?genericPartNumber=UC3901&fileType=pdf
footprint D14_N (SOIC, 14-Leads, Body 8.7x3.9mm, Pitch 1.27mm, IPC Medium Density)
footprint D14_L (SOIC, 14-Leads, Body 8.7x3.9mm, Pitch 1.27mm, IPC High Density)
footprint D14_M (SOIC, 14-Leads, Body 8.7x3.9mm, Pitch 1.27mm, IPC Low Density)
pins: 1 CT, 2 EXTCLK (in), 3 NC, 4 DRIVERB (out), 5 DRIVERA (out), 6 NC, 7 GND (power), 8 RT, 9 VREF (out), 10 NI (in), 11 INV (in), 12 COMP, 13 STATUS (oc), 14 +VIN (power)

## UC3901DG4
designator U?
Isolated Feedback Generator, 4.5 to 40 V, 0 to 70 degC, 14-pin SOIC (D), Green (RoHS & no Sb/Br); Manufacturer: Texas Instruments; PartNumber: UC3901DG4; On Board Oscillator: Useable to 5 MHz; On Board Reference: Yes; Operating Supply Current(mA): 5; Operating Supply(Max)(V): 40; Operating Supply(Min)(V): 4.5; Output Current(A): 0.035; Rating: Catalog; Reference Voltage(V): 1.5; UVLO: TRUE; Vref tol(%): 3; DatasheetVersion: SLUS279A; PackageVersion: revM, Jun-2011; PackageReference: D14; PackageDescription: 14-Pin Plastic Small Outline Integrated Circuit, 8.7 x 3.9 mm, Pitch 1.27 mm Pitch; Supplier 1: Digi-Key; Supplier Part Number 1: UC3901DG4-ND; Supplier 2: Newark; Supplier Part Number 2: 34M0265; Supplier 3: Mouser; Supplier Part Number 3: 595-UC3901DG4; Mounting Technology: Surface Mount; Code_JEDEC: MS-012AB; ComponentLink1Description: Datasheet; ComponentLink1URL: http://www.ti.com/general/docs/lit/getliterature.tsp?genericPartNumber=UC3901&fileType=pdf
footprint D14_N (SOIC, 14-Leads, Body 8.7x3.9mm, Pitch 1.27mm, IPC Medium Density)
footprint D14_L (SOIC, 14-Leads, Body 8.7x3.9mm, Pitch 1.27mm, IPC High Density)
footprint D14_M (SOIC, 14-Leads, Body 8.7x3.9mm, Pitch 1.27mm, IPC Low Density)
pins: 1 CT, 2 EXTCLK (in), 3 NC, 4 DRIVERB (out), 5 DRIVERA (out), 6 NC, 7 GND (power), 8 RT, 9 VREF (out), 10 NI (in), 11 INV (in), 12 COMP, 13 STATUS (oc), 14 +VIN (power)

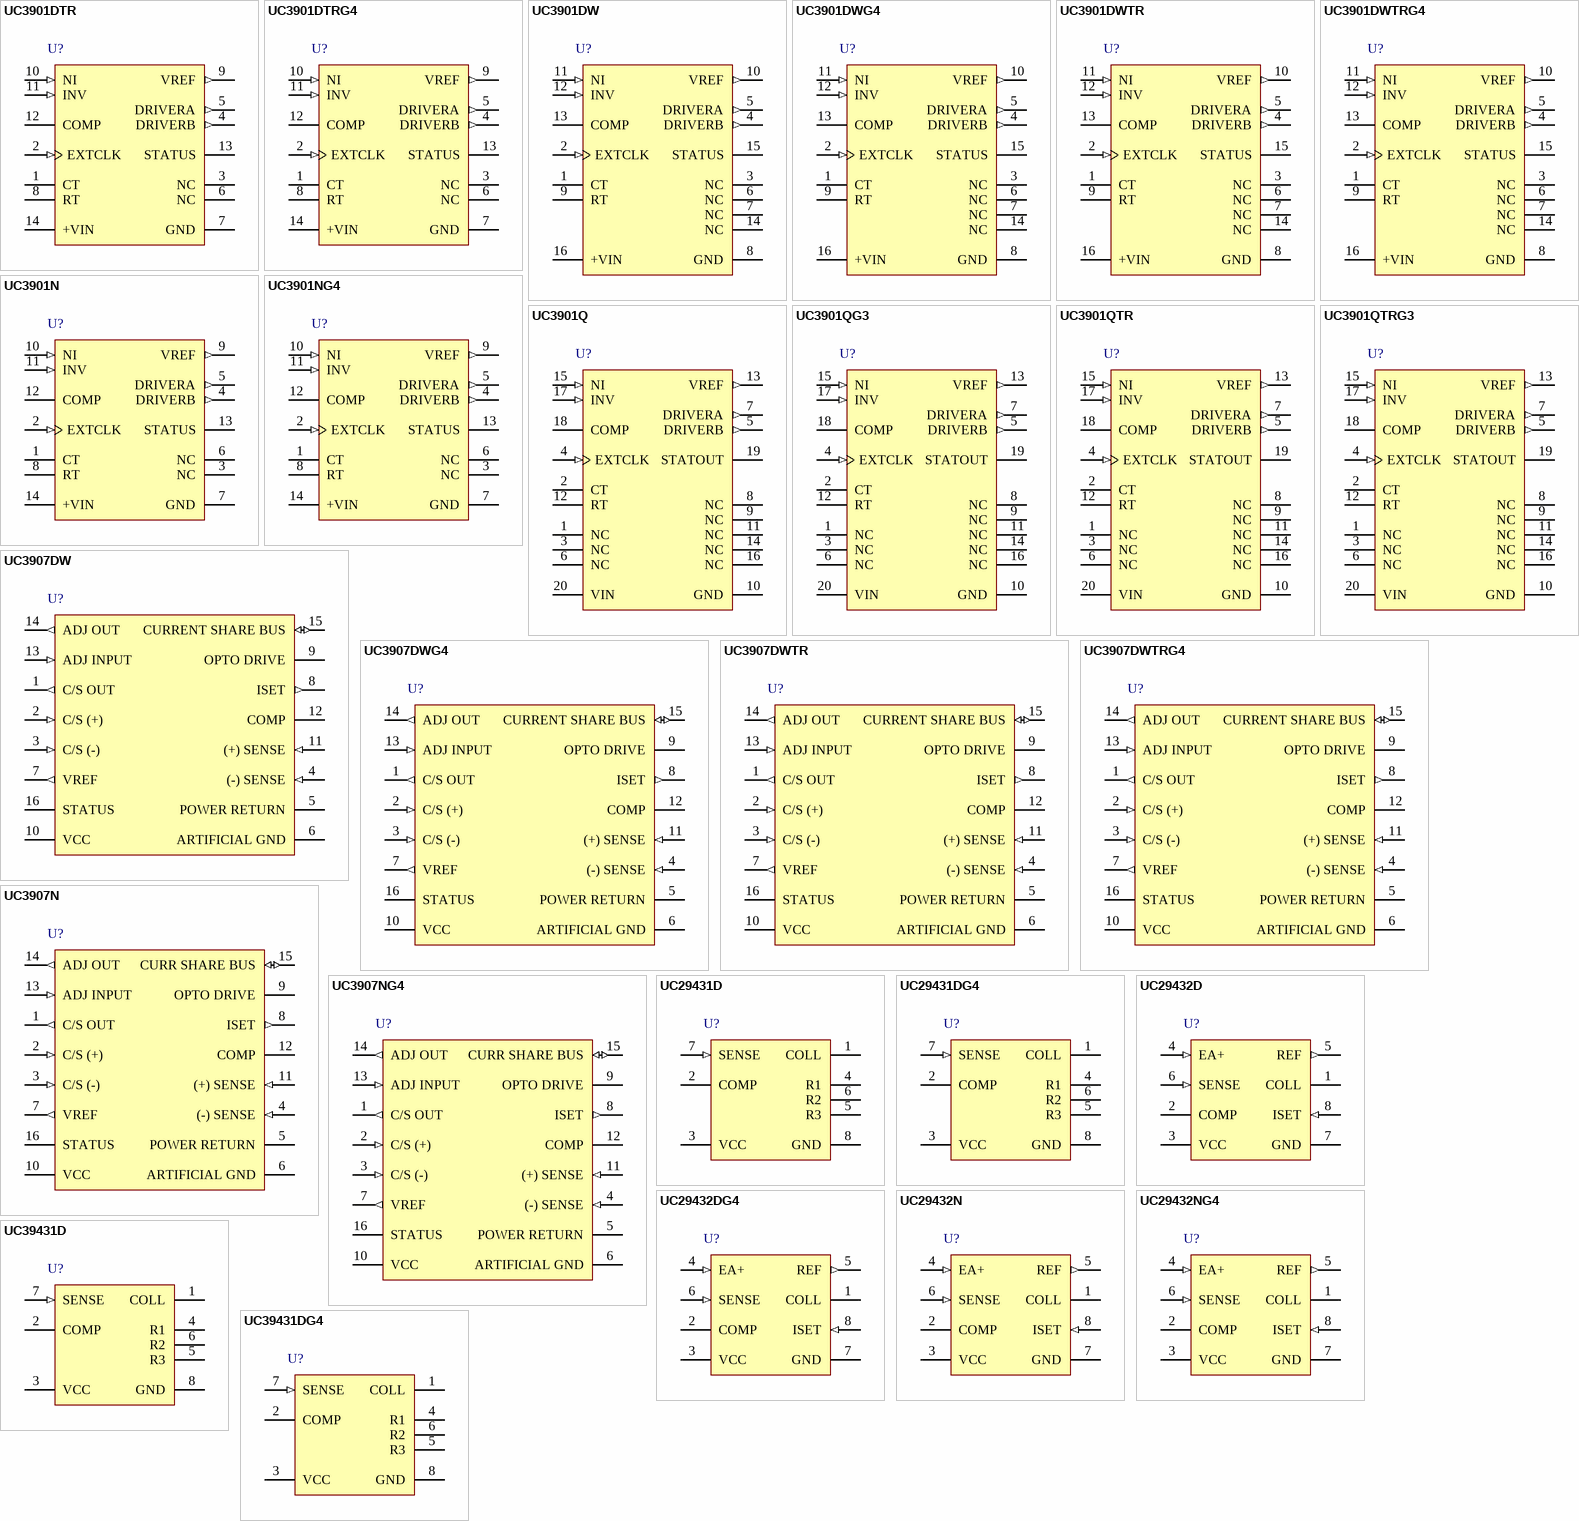
[diagram p1: symbols UC3901DTR to UC39431DG4]

## UC3901DTR
designator U?
Isolated Feedback Generator, 4.5 to 40 V, 0 to 70 degC, 14-pin SOIC (D), Green (RoHS & no Sb/Br); Manufacturer: Texas Instruments; PartNumber: UC3901DTR; On Board Oscillator: Useable to 5 MHz; On Board Reference: Yes; Operating Supply Current(mA): 5; Operating Supply(Max)(V): 40; Operating Supply(Min)(V): 4.5; Output Current(A): 0.035; Rating: Catalog; Reference Voltage(V): 1.5; UVLO: TRUE; Vref tol(%): 3; DatasheetVersion: SLUS279A; PackageVersion: revM, Jun-2011; PackageReference: D14; PackageDescription: 14-Pin Plastic Small Outline Integrated Circuit, 8.7 x 3.9 mm, Pitch 1.27 mm Pitch; Supplier 1: Digi-Key; Supplier Part Number 1: UC3901DTR-ND; Supplier 2: Newark; Supplier Part Number 2: 77C3451; Supplier 3: Mouser; Supplier Part Number 3: 595-UC3901DTR; Mounting Technology: Surface Mount; Code_JEDEC: MS-012AB; ComponentLink1Description: Datasheet; ComponentLink1URL: http://www.ti.com/general/docs/lit/getliterature.tsp?genericPartNumber=UC3901&fileType=pdf
footprint D14_N (SOIC, 14-Leads, Body 8.7x3.9mm, Pitch 1.27mm, IPC Medium Density)
footprint D14_L (SOIC, 14-Leads, Body 8.7x3.9mm, Pitch 1.27mm, IPC High Density)
footprint D14_M (SOIC, 14-Leads, Body 8.7x3.9mm, Pitch 1.27mm, IPC Low Density)
pins: 1 CT, 2 EXTCLK (in), 3 NC, 4 DRIVERB (out), 5 DRIVERA (out), 6 NC, 7 GND (power), 8 RT, 9 VREF (out), 10 NI (in), 11 INV (in), 12 COMP, 13 STATUS (oc), 14 +VIN (power)

## UC3901DTRG4
designator U?
Isolated Feedback Generator, 4.5 to 40 V, 0 to 70 degC, 14-pin SOIC (D), Green (RoHS & no Sb/Br); Manufacturer: Texas Instruments; PartNumber: UC3901DTRG4; On Board Oscillator: Useable to 5 MHz; On Board Reference: Yes; Operating Supply Current(mA): 5; Operating Supply(Max)(V): 40; Operating Supply(Min)(V): 4.5; Output Current(A): 0.035; Rating: Catalog; Reference Voltage(V): 1.5; UVLO: TRUE; Vref tol(%): 3; DatasheetVersion: SLUS279A; PackageVersion: revM, Jun-2011; PackageReference: D14; PackageDescription: 14-Pin Plastic Small Outline Integrated Circuit, 8.7 x 3.9 mm, Pitch 1.27 mm Pitch; Supplier 1: Digi-Key; Supplier Part Number 1: UC3901DTRG4-ND; Supplier 2: Newark; Supplier Part Number 2: 54K2363; Supplier 3: Mouser; Supplier Part Number 3: 595-UC3901DTRG4; Mounting Technology: Surface Mount; Code_JEDEC: MS-012AB; ComponentLink1Description: Datasheet; ComponentLink1URL: http://www.ti.com/general/docs/lit/getliterature.tsp?genericPartNumber=UC3901&fileType=pdf
footprint D14_N (SOIC, 14-Leads, Body 8.7x3.9mm, Pitch 1.27mm, IPC Medium Density)
footprint D14_L (SOIC, 14-Leads, Body 8.7x3.9mm, Pitch 1.27mm, IPC High Density)
footprint D14_M (SOIC, 14-Leads, Body 8.7x3.9mm, Pitch 1.27mm, IPC Low Density)
pins: 1 CT, 2 EXTCLK (in), 3 NC, 4 DRIVERB (out), 5 DRIVERA (out), 6 NC, 7 GND (power), 8 RT, 9 VREF (out), 10 NI (in), 11 INV (in), 12 COMP, 13 STATUS (oc), 14 +VIN (power)

## UC3901DW
designator U?
Isolated Feedback Generator, 4.5 to 40 V, 0 to 70 degC, 16-pin SOIC (DW), Green (RoHS & no Sb/Br); Manufacturer: Texas Instruments; PartNumber: UC3901DW; On Board Oscillator: Useable to 5 MHz; On Board Reference: Yes; Operating Supply Current(mA): 5; Operating Supply(Max)(V): 40; Operating Supply(Min)(V): 4.5; Output Current(A): 0.035; Rating: Catalog; Reference Voltage(V): 1.5; UVLO: TRUE; Vref tol(%): 3; DatasheetVersion: SLUS279A; PackageVersion: revG, Jan-2011; PackageReference: DW16; PackageDescription: 16-Pin Small Outline Integrated Circuit, 10.3 x 7.5 mm, Pitch 1.27 mm Pitch; Supplier 1: Digi-Key; Supplier Part Number 1: 296-34743-5-ND; Supplier 2: Newark; Supplier Part Number 2: 77C3452; Supplier 3: Mouser; Supplier Part Number 3: 595-UC3901DW; Mounting Technology: Surface Mount; Code_JEDEC: MS-013-AA; ComponentLink1Description: Datasheet; ComponentLink1URL: http://www.ti.com/general/docs/lit/getliterature.tsp?genericPartNumber=UC3901&fileType=pdf
footprint DW16_N (SOIC, 16-Leads, Body 10.3x7.5mm, Pitch 1.27mm, IPC Medium Density)
footprint DW16_L (SOIC, 16-Leads, Body 10.3x7.5mm, Pitch 1.27mm, IPC High Density)
footprint DW16_M (SOIC, 16-Leads, Body 10.3x7.5mm, Pitch 1.27mm, IPC Low Density)
pins: 1 CT, 2 EXTCLK (in), 3 NC, 4 DRIVERB (out), 5 DRIVERA (out), 6 NC, 7 NC, 8 GND (power), 9 RT, 10 VREF (out), 11 NI (in), 12 INV (in), 13 COMP, 14 NC, 15 STATUS (oc), 16 +VIN (power)

## UC3901DWG4
designator U?
Isolated Feedback Generator, 4.5 to 40 V, 0 to 70 degC, 16-pin SOIC (DW), Green (RoHS & no Sb/Br); Manufacturer: Texas Instruments; PartNumber: UC3901DWG4; On Board Oscillator: Useable to 5 MHz; On Board Reference: Yes; Operating Supply Current(mA): 5; Operating Supply(Max)(V): 40; Operating Supply(Min)(V): 4.5; Output Current(A): 0.035; Rating: Catalog; Reference Voltage(V): 1.5; UVLO: TRUE; Vref tol(%): 3; DatasheetVersion: SLUS279A; PackageVersion: revG, Jan-2011; PackageReference: DW16; PackageDescription: 16-Pin Small Outline Integrated Circuit, 10.3 x 7.5 mm, Pitch 1.27 mm Pitch; Supplier 1: Digi-Key; Supplier Part Number 1: UC3901DWG4-ND; Supplier 2: Newark; Supplier Part Number 2: 80K3543; Supplier 3: Mouser; Supplier Part Number 3: 595-UC3901DWG4; Mounting Technology: Surface Mount; Code_JEDEC: MS-013-AA; ComponentLink1Description: Datasheet; ComponentLink1URL: http://www.ti.com/general/docs/lit/getliterature.tsp?genericPartNumber=UC3901&fileType=pdf
footprint DW16_N (SOIC, 16-Leads, Body 10.3x7.5mm, Pitch 1.27mm, IPC Medium Density)
footprint DW16_L (SOIC, 16-Leads, Body 10.3x7.5mm, Pitch 1.27mm, IPC High Density)
footprint DW16_M (SOIC, 16-Leads, Body 10.3x7.5mm, Pitch 1.27mm, IPC Low Density)
pins: 1 CT, 2 EXTCLK (in), 3 NC, 4 DRIVERB (out), 5 DRIVERA (out), 6 NC, 7 NC, 8 GND (power), 9 RT, 10 VREF (out), 11 NI (in), 12 INV (in), 13 COMP, 14 NC, 15 STATUS (oc), 16 +VIN (power)

## UC3901DWTR
designator U?
Isolated Feedback Generator, 4.5 to 40 V, 0 to 70 degC, 16-pin SOIC (DW), Green (RoHS & no Sb/Br); Manufacturer: Texas Instruments; PartNumber: UC3901DWTR; On Board Oscillator: Useable to 5 MHz; On Board Reference: Yes; Operating Supply Current(mA): 5; Operating Supply(Max)(V): 40; Operating Supply(Min)(V): 4.5; Output Current(A): 0.035; Rating: Catalog; Reference Voltage(V): 1.5; UVLO: TRUE; Vref tol(%): 3; DatasheetVersion: SLUS279A; PackageVersion: revG, Jan-2011; PackageReference: DW16; PackageDescription: 16-Pin Small Outline Integrated Circuit, 10.3 x 7.5 mm, Pitch 1.27 mm Pitch; Supplier 1: Digi-Key; Supplier Part Number 1: UC3901DWTR-ND; Supplier 2: Newark; Supplier Part Number 2: 77C3453; Supplier 3: Mouser; Supplier Part Number 3: 595-UC3901DWTR; Mounting Technology: Surface Mount; Code_JEDEC: MS-013-AA; ComponentLink1Description: Datasheet; ComponentLink1URL: http://www.ti.com/general/docs/lit/getliterature.tsp?genericPartNumber=UC3901&fileType=pdf
footprint DW16_N (SOIC, 16-Leads, Body 10.3x7.5mm, Pitch 1.27mm, IPC Medium Density)
footprint DW16_L (SOIC, 16-Leads, Body 10.3x7.5mm, Pitch 1.27mm, IPC High Density)
footprint DW16_M (SOIC, 16-Leads, Body 10.3x7.5mm, Pitch 1.27mm, IPC Low Density)
pins: 1 CT, 2 EXTCLK (in), 3 NC, 4 DRIVERB (out), 5 DRIVERA (out), 6 NC, 7 NC, 8 GND (power), 9 RT, 10 VREF (out), 11 NI (in), 12 INV (in), 13 COMP, 14 NC, 15 STATUS (oc), 16 +VIN (power)

## UC3901DWTRG4
designator U?
Isolated Feedback Generator, 4.5 to 40 V, 0 to 70 degC, 16-pin SOIC (DW), Green (RoHS & no Sb/Br); Manufacturer: Texas Instruments; PartNumber: UC3901DWTRG4; On Board Oscillator: Useable to 5 MHz; On Board Reference: Yes; Operating Supply Current(mA): 5; Operating Supply(Max)(V): 40; Operating Supply(Min)(V): 4.5; Output Current(A): 0.035; Rating: Catalog; Reference Voltage(V): 1.5; UVLO: TRUE; Vref tol(%): 3; DatasheetVersion: SLUS279A; PackageVersion: revG, Jan-2011; PackageReference: DW16; PackageDescription: 16-Pin Small Outline Integrated Circuit, 10.3 x 7.5 mm, Pitch 1.27 mm Pitch; Supplier 1: Digi-Key; Supplier Part Number 1: UC3901DWTRG4-ND; Supplier 2: Newark; Supplier Part Number 2: 71J8482; Supplier 3: Mouser; Supplier Part Number 3: 595-UC3901DWTRG4; Mounting Technology: Surface Mount; Code_JEDEC: MS-013-AA; ComponentLink1Description: Datasheet; ComponentLink1URL: http://www.ti.com/general/docs/lit/getliterature.tsp?genericPartNumber=UC3901&fileType=pdf
footprint DW16_N (SOIC, 16-Leads, Body 10.3x7.5mm, Pitch 1.27mm, IPC Medium Density)
footprint DW16_L (SOIC, 16-Leads, Body 10.3x7.5mm, Pitch 1.27mm, IPC High Density)
footprint DW16_M (SOIC, 16-Leads, Body 10.3x7.5mm, Pitch 1.27mm, IPC Low Density)
pins: 1 CT, 2 EXTCLK (in), 3 NC, 4 DRIVERB (out), 5 DRIVERA (out), 6 NC, 7 NC, 8 GND (power), 9 RT, 10 VREF (out), 11 NI (in), 12 INV (in), 13 COMP, 14 NC, 15 STATUS (oc), 16 +VIN (power)

## UC3901N
designator U?
Isolated Feedback Generator, 4.5 to 40 V, 0 to 70 degC, 14-pin PDIP (N), Green (RoHS & no Sb/Br); Manufacturer: Texas Instruments; PartNumber: UC3901N; On Board Oscillator: Useable to 5 MHz; On Board Reference: Yes; Operating Supply Current(mA): 5; Operating Supply(Max)(V): 40; Operating Supply(Min)(V): 4.5; Output Current(A): 0.035; Rating: Catalog; Reference Voltage(V): 1.5; UVLO: TRUE; Vref tol(%): 3; DatasheetVersion: SLUS279A; PackageVersion: revE, Dec-2002; PackageReference: N14; PackageDescription: 14-Pin Plastic Dual-In-Line Package, Row Spacing 7.62 mm, Pitch 2.54 mm; Supplier 1: Digi-Key; Supplier Part Number 1: 296-11339-5-ND; Supplier 2: Newark; Supplier Part Number 2: 77C3454; Supplier 3: Mouser; Supplier Part Number 3: 595-UC3901N; Mounting Technology: Through Hole; Code_JEDEC: MS-001; ComponentLink1Description: Datasheet; ComponentLink1URL: http://www.ti.com/general/docs/lit/getliterature.tsp?genericPartNumber=UC3901&fileType=pdf
footprint N14 (DIP, 14-Leads, Row Spacing 7.62mm, Pitch 2.54mm, Body 19.3x6.4mm)
pins: 1 CT, 2 EXTCLK (in), 3 NC, 4 DRIVERB (out), 5 DRIVERA (out), 6 NC, 7 GND (power), 8 RT, 9 VREF (out), 10 NI (in), 11 INV (in), 12 COMP, 13 STATUS (oc), 14 +VIN (power)

## UC3901NG4
designator U?
Isolated Feedback Generator, 4.5 to 40 V, 0 to 70 degC, 14-pin PDIP (N), Green (RoHS & no Sb/Br); Manufacturer: Texas Instruments; PartNumber: UC3901NG4; On Board Oscillator: Useable to 5 MHz; On Board Reference: Yes; Operating Supply Current(mA): 5; Operating Supply(Max)(V): 40; Operating Supply(Min)(V): 4.5; Output Current(A): 0.035; Rating: Catalog; Reference Voltage(V): 1.5; UVLO: TRUE; Vref tol(%): 3; DatasheetVersion: SLUS279A; PackageVersion: revE, Dec-2002; PackageReference: N14; PackageDescription: 14-Pin Plastic Dual-In-Line Package, Row Spacing 7.62 mm, Pitch 2.54 mm; Supplier 1: Digi-Key; Supplier Part Number 1: UC3901NG4-ND; Supplier 2: Newark; Supplier Part Number 2: 10M0716; Supplier 3: Mouser; Supplier Part Number 3: 595-UC3901NG4; Mounting Technology: Through Hole; Code_JEDEC: MS-001; ComponentLink1Description: Datasheet; ComponentLink1URL: http://www.ti.com/general/docs/lit/getliterature.tsp?genericPartNumber=UC3901&fileType=pdf
footprint N14 (DIP, 14-Leads, Row Spacing 7.62mm, Pitch 2.54mm, Body 19.3x6.4mm)
pins: 1 CT, 2 EXTCLK (in), 3 NC, 4 DRIVERB (out), 5 DRIVERA (out), 6 NC, 7 GND (power), 8 RT, 9 VREF (out), 10 NI (in), 11 INV (in), 12 COMP, 13 STATUS (oc), 14 +VIN (power)

## UC3901Q
designator U?
Isolated Feedback Generator, 4.5 to 40 V, 0 to 70 degC, 20-pin PLCC (FN), Green (RoHS & no Sb/Br); Manufacturer: Texas Instruments; PartNumber: UC3901Q; On Board Oscillator: Useable to 5 MHz; On Board Reference: Yes; Operating Supply Current(mA): 5; Operating Supply(Max)(V): 40; Operating Supply(Min)(V): 4.5; Output Current(A): 0.035; Rating: Catalog; Reference Voltage(V): 1.5; UVLO: TRUE; Vref tol(%): 3; DatasheetVersion: SLUS279A; PackageVersion: revB, Mar-1995; PackageReference: FN20; PackageDescription: 20-Pin Plastic Leaded Chip Carrier, 1.27 mm Pitch; Supplier 1: Digi-Key; Supplier Part Number 1: UC3901Q-ND; Supplier 2: Newark; Supplier Part Number 2: 77C3455; Supplier 3: Mouser; Supplier Part Number 3: 595-UC3901Q; Mounting Technology: Surface Mount; Code_JEDEC: MS-018; ComponentLink1Description: Datasheet; ComponentLink1URL: http://www.ti.com/general/docs/lit/getliterature.tsp?genericPartNumber=UC3901&fileType=pdf
footprint FN20_N (Leaded Chip Carrier, 20-Leads, Body 9x9mm, Pitch 1.27mm, IPC Medium Density)
footprint FN20_L (Leaded Chip Carrier, 20-Leads, Body 9x9mm, Pitch 1.27mm, IPC High Density)
footprint FN20_M (Leaded Chip Carrier, 20-Leads, Body 9x9mm, Pitch 1.27mm, IPC Low Density)
pins: 1 NC, 2 CT, 3 NC, 4 EXTCLK (in), 5 DRIVERB (out), 6 NC, 7 DRIVERA (out), 8 NC, 9 NC, 10 GND (power), 11 NC, 12 RT, 13 VREF (out), 14 NC, 15 NI (in), 16 NC, 17 INV (in), 18 COMP, 19 STATOUT (oc), 20 VIN (power)

## UC3901QG3
designator U?
Isolated Feedback Generator, 4.5 to 40 V, 0 to 70 degC, 20-pin PLCC (FN), Green (RoHS & no Sb/Br); Manufacturer: Texas Instruments; PartNumber: UC3901QG3; On Board Oscillator: Useable to 5 MHz; On Board Reference: Yes; Operating Supply Current(mA): 5; Operating Supply(Max)(V): 40; Operating Supply(Min)(V): 4.5; Output Current(A): 0.035; Rating: Catalog; Reference Voltage(V): 1.5; UVLO: TRUE; Vref tol(%): 3; DatasheetVersion: SLUS279A; PackageVersion: revB, Mar-1995; PackageReference: FN20; PackageDescription: 20-Pin Plastic Leaded Chip Carrier, 1.27 mm Pitch; Supplier 1: Digi-Key; Supplier Part Number 1: UC3901QG3-ND; Supplier 2: Newark; Supplier Part Number 2: 70K6034; Supplier 3: Mouser; Supplier Part Number 3: 595-UC3901QG3; Mounting Technology: Surface Mount; Code_JEDEC: MS-018; ComponentLink1Description: Datasheet; ComponentLink1URL: http://www.ti.com/general/docs/lit/getliterature.tsp?genericPartNumber=UC3901&fileType=pdf
footprint FN20_N (Leaded Chip Carrier, 20-Leads, Body 9x9mm, Pitch 1.27mm, IPC Medium Density)
footprint FN20_L (Leaded Chip Carrier, 20-Leads, Body 9x9mm, Pitch 1.27mm, IPC High Density)
footprint FN20_M (Leaded Chip Carrier, 20-Leads, Body 9x9mm, Pitch 1.27mm, IPC Low Density)
pins: 1 NC, 2 CT, 3 NC, 4 EXTCLK (in), 5 DRIVERB (out), 6 NC, 7 DRIVERA (out), 8 NC, 9 NC, 10 GND (power), 11 NC, 12 RT, 13 VREF (out), 14 NC, 15 NI (in), 16 NC, 17 INV (in), 18 COMP, 19 STATOUT (oc), 20 VIN (power)